# Altium schematic symbol library Schlib1.SchLib: 6 symbols
Pins are listed as number, name and electrical type; pins without a type are passive.

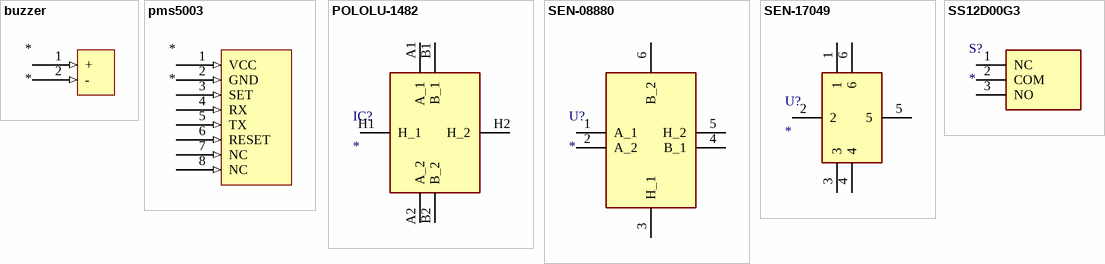
[diagram p0: symbols buzzer to SS12D00G3]

## buzzer
designator *
footprint buzzer
pins: 1 + (in), 2 - (in)

## pms5003
designator *
footprint pms5003
pins: 1 VCC (in), 2 GND (in), 3 SET (in), 4 RX (in), 5 TX (in), 6 RESET (in), 7 NC (in), 8 NC (in)

## POLOLU-1482
designator IC?
Integrated Circuit; Manufacturer_Name: Pololu; Description: MQ-7 Semiconductor Sensor for Carbon Monoxide; Datasheet Link: https://www.pololu.com/file/0J313/MQ7.pdf; Height: 14.5mm; Manufacturer_Part_Number: POLOLU-1482
footprint POLOLU1482
pins: A1 A_1, A2 A_2, B1 B_1, B2 B_2, H1 H_1, H2 H_2

## SEN-08880
designator U?
Undefined or Miscellaneous; Manufacturer_Name: SparkFun; Manufacturer_Part_Number: SEN-08880; Description: SparkFun Accessories Alcohol Gas Sensor - MQ-3; Datasheet Link: https://www.sparkfun.com/datasheets/Sensors/MQ-3.pdf; Mouser Part Number: 474-SEN-08880; Mouser Price/Stock: https://www.mouser.co.uk/ProductDetail/SparkFun/SEN-08880?qs=WyAARYrbSnaZaJRToUt%2FEw%3D%3D; Arrow Part Number: SEN-08880; Arrow Price/Stock: https://www.arrow.com/en/products/sen-08880/sparkfun-electronics
footprint MQ-3
pins: 1 A_1, 2 A_2, 3 H_1, 4 B_1, 5 H_2, 6 B_2

## SEN-17049
designator U?
Undefined or Miscellaneous; Manufacturer_Name: SparkFun; Manufacturer_Part_Number: SEN-17049; Description: Smoke Detectors Smoke Sensor - MQ-2; Datasheet Link: https://eu.mouser.com/datasheet/2/813/MQ_2-1915159.pdf; Height: 20mm; Mouser Part Number: 474-SEN-17049; Mouser Price/Stock: https://www.mouser.co.uk/ProductDetail/SparkFun/SEN-17049?qs=DPoM0jnrROWDFAIFRzjoUQ%3D%3D; Arrow Part Number: SEN-17049; Arrow Price/Stock: https://www.arrow.com/en/products/sen-17049/sparkfun-electronics?region=nac
footprint SEN17049
pins: 1, 2, 3, 4, 5, 6

## SS12D00G3
designator S?
Switch; Manufacturer_Name: Vimex; Manufacturer_Part_Number: SS12D00G3; Datasheet Link: http://vimex.com/switches/techdocs/SS12D00-tech.pdf; Height: 7mm
footprint SS12D00G3
pins: 1 NC, 2 COM, 3 NO